# Altium footprint library SON50P200X300X80-11N-D.PcbLib: 1 footprints
Each footprint in its own frame and in the unit in brackets; x right, y up, seen from the top. Pads: shape width x height; smd on the part's side, far side on the other; paste and mask are expansions set on the pad; w line width, h text height; cw(c..) or ccw(c..) is an arc to the next point about the centre after c.
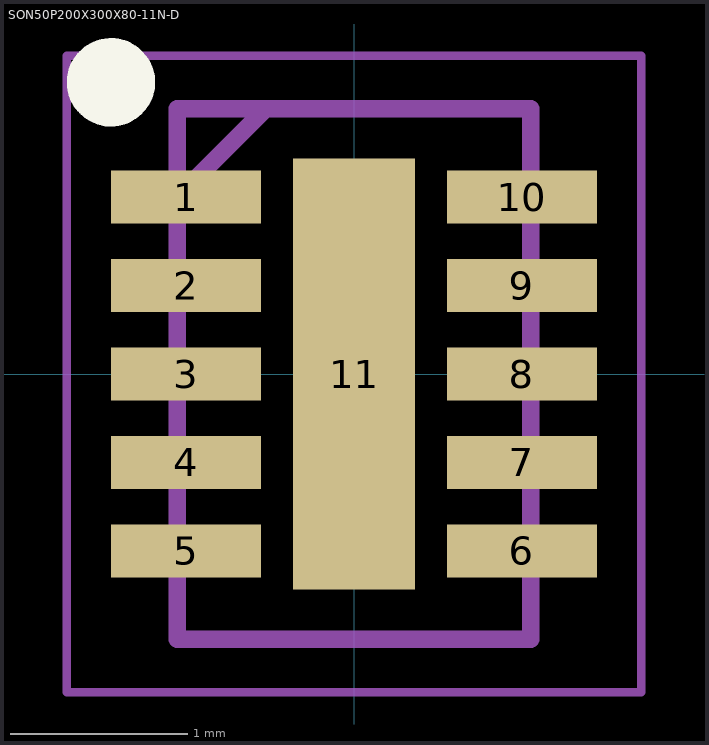
[diagram p0: the footprint, top view; thin cyan lines are the x and y axes]

## SON50P200X300X80-11N-D [mm]
pads (11):
  rect 0.85x0.3 smd: 1(-0.95,1) 2(-0.95,0.5) 3(-0.95,0) 4(-0.95,-0.5) 5(-0.95,-1) 6(0.95,-1) 7(0.95,-0.5) 8(0.95,0) 9(0.95,0.5) 10(0.95,1)
  rect 0.69x2.44 smd: 11(0,0)
Top Overlay:
  circle w0.25: c-1.375,1.65 r0.125
Mechanical 15:
  lines w0.1: -1,1 -0.5,1.5 ; -1,-1.5 1,-1.5 1,1.5 -1,1.5 -1,-1.5
Mechanical 20:
  lines w0.05: -1.625,-1.8 1.625,-1.8 1.625,1.8 -1.625,1.8 -1.625,-1.8